# Altium footprint library DPAK228P998X240-3N.PcbLib: 1 footprints
Each footprint in its own frame and in the unit in brackets; x right, y up, seen from the top. Pads: shape width x height; smd on the part's side, far side on the other; paste and mask are expansions set on the pad; w line width, h text height; cw(c..) or ccw(c..) is an arc to the next point about the centre after c.
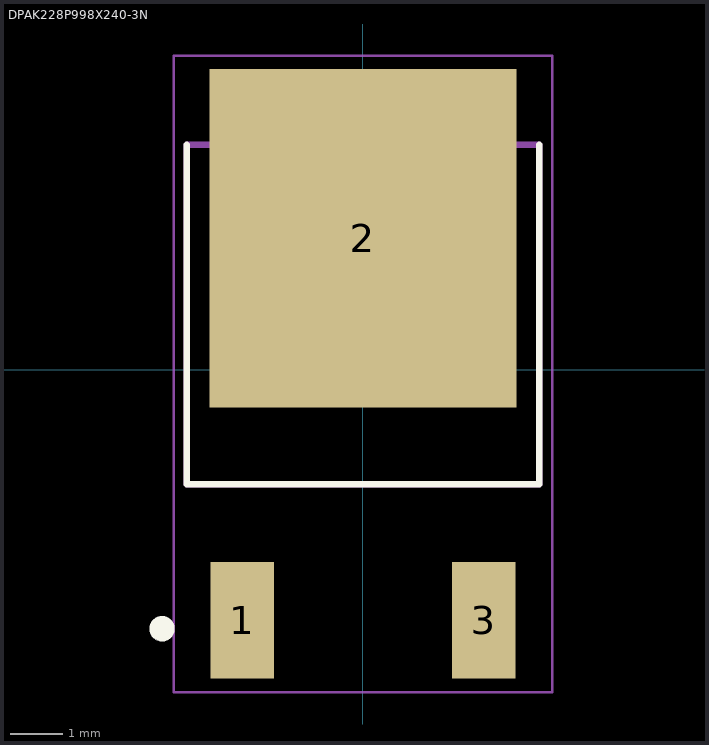
[diagram p0: the footprint, top view; thin cyan lines are the x and y axes]

## DPAK228P998X240-3N [mm]
pads (3):
  rect 1.2x2.2 smd: 1(-2.28,-4.74) 3(2.28,-4.74)
  rect 5.8x6.4 smd paste-4: 2(0,2.48)
Top Overlay:
  circle w0.24: c-3.8,-4.9 r0.12
  lines w0.127: -3.33,4.25 -3.33,-2.17 3.33,-2.17 3.33,4.25
Top Paste:
  region: 1.834,0.456 -1.835,0.456 -1.835,4.504 1.834,4.504
Mechanical 13:
  lines w0.127: -3.33,-2.17 -3.33,4.25 3.33,4.25 3.33,-2.17 -3.33,-2.17
Mechanical 15:
  lines w0.05: -3.58,-6.1 -3.58,5.93 3.58,5.93 3.58,-6.1 -3.58,-6.1